# Altium footprint library FMC-USB-PHY-BOARD_r0.2.PcbLib: 19 footprints (part 1 of 2)
Each footprint in its own frame and in the unit in brackets; x right, y up, seen from the top. Pads: shape width x height; smd on the part's side, far side on the other; paste and mask are expansions set on the pad; w line width, h text height; cw(c..) or ccw(c..) is an arc to the next point about the centre after c.
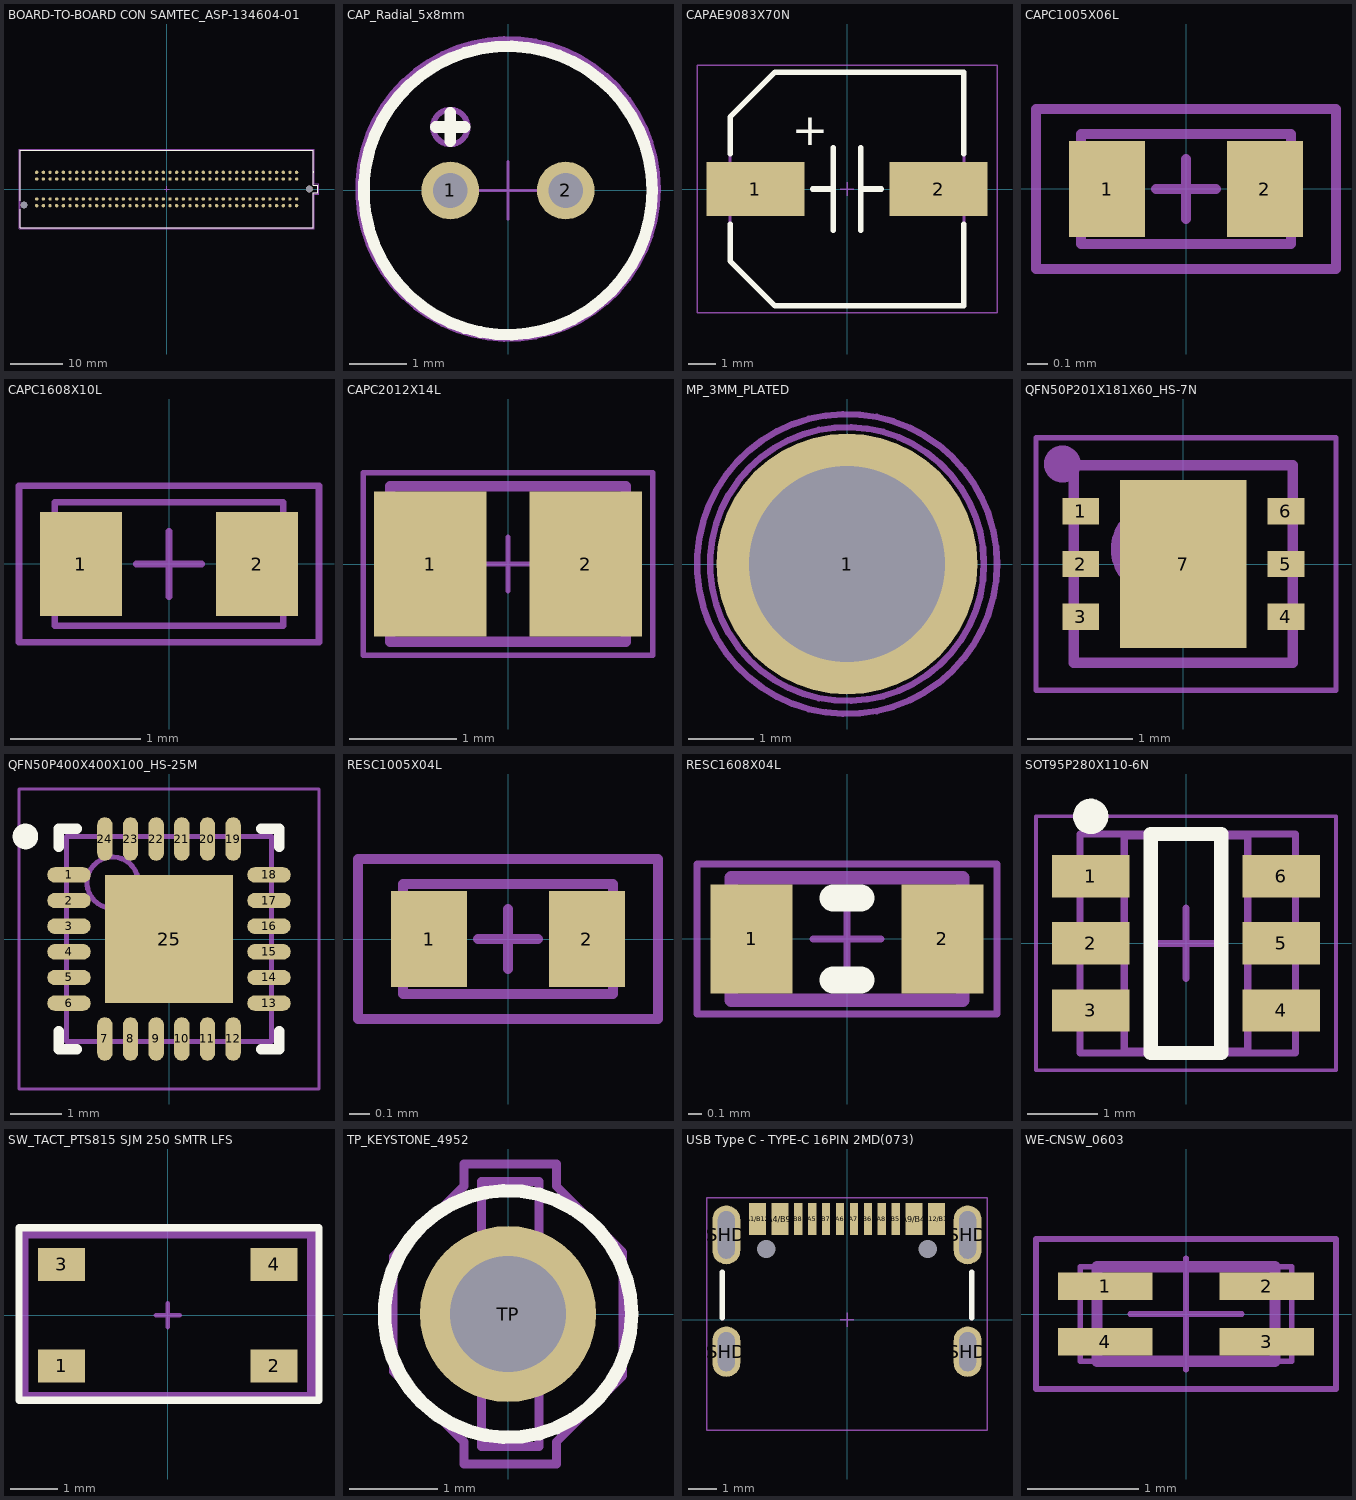
[diagram p0: the footprints below, top view; thin cyan lines are the x and y axes]

## BOARD-TO-BOARD CON SAMTEC_ASP-134604-01 [mm]
pads (162):
  round 0.64 smd: C1(24.765,3.175) C2(23.495,3.175) C3(22.225,3.175) C4(20.955,3.175) C5(19.685,3.175) C6(18.415,3.175) C7(17.145,3.175) C8(15.875,3.175) C9(14.605,3.175) C10(13.335,3.175) C11(12.065,3.175) C12(10.795,3.175) C13(9.525,3.175) C14(8.255,3.175) C15(6.985,3.175) C16(5.715,3.175) C17(4.445,3.175) C18(3.175,3.175) C19(1.905,3.175) C20(0.635,3.175) C21(-0.635,3.175) C22(-1.905,3.175) C23(-3.175,3.175) C24(-4.445,3.175) C25(-5.715,3.175) C26(-6.985,3.175) C27(-8.255,3.175) C28(-9.525,3.175) C29(-10.795,3.175) C30(-12.065,3.175) C31(-13.335,3.175) C32(-14.605,3.175) C33(-15.875,3.175) C34(-17.145,3.175) C35(-18.415,3.175) C36(-19.685,3.175) C37(-20.955,3.175) C38(-22.225,3.175) C39(-23.495,3.175) C40(-24.765,3.175) D1(24.765,1.905) D2(23.495,1.905) D3(22.225,1.905) D4(20.955,1.905) D5(19.685,1.905) D6(18.415,1.905) D7(17.145,1.905) D8(15.875,1.905) D9(14.605,1.905) D10(13.335,1.905) D11(12.065,1.905) D12(10.795,1.905) D13(9.525,1.905) D14(8.255,1.905) D15(6.985,1.905) D16(5.715,1.905) D17(4.445,1.905) D18(3.175,1.905) D19(1.905,1.905) D20(0.635,1.905) D21(-0.635,1.905) D22(-1.905,1.905) D23(-3.175,1.905) D24(-4.445,1.905) D25(-5.715,1.905) D26(-6.985,1.905) D27(-8.255,1.905) D28(-9.525,1.905) D29(-10.795,1.905) D30(-12.065,1.905) D31(-13.335,1.905) D32(-14.605,1.905) D33(-15.875,1.905) D34(-17.145,1.905) D35(-18.415,1.905) D36(-19.685,1.905) D37(-20.955,1.905) D38(-22.225,1.905) D39(-23.495,1.905) D40(-24.765,1.905) G1(24.765,-1.905) G2(23.495,-1.905) G3(22.225,-1.905) G4(20.955,-1.905) G5(19.685,-1.905) G6(18.415,-1.905) G7(17.145,-1.905) G8(15.875,-1.905) G9(14.605,-1.905) G10(13.335,-1.905) G11(12.065,-1.905) G12(10.795,-1.905) G13(9.525,-1.905) G14(8.255,-1.905) G15(6.985,-1.905) G16(5.715,-1.905) G17(4.445,-1.905) G18(3.175,-1.905) G19(1.905,-1.905) G20(0.635,-1.905) G21(-0.635,-1.905) G22(-1.905,-1.905) G23(-3.175,-1.905) G24(-4.445,-1.905) G25(-5.715,-1.905) G26(-6.985,-1.905) G27(-8.255,-1.905) G28(-9.525,-1.905) G29(-10.795,-1.905) G30(-12.065,-1.905) G31(-13.335,-1.905) G32(-14.605,-1.905) G33(-15.875,-1.905) G34(-17.145,-1.905) G35(-18.415,-1.905) G36(-19.685,-1.905) G37(-20.955,-1.905) G38(-22.225,-1.905) G39(-23.495,-1.905) G40(-24.765,-1.905) H1(24.765,-3.175) H2(23.495,-3.175) H3(22.225,-3.175) H4(20.955,-3.175) H5(19.685,-3.175) H6(18.415,-3.175) H7(17.145,-3.175) H8(15.875,-3.175) H9(14.605,-3.175) H10(13.335,-3.175) H11(12.065,-3.175) H12(10.795,-3.175) H13(9.525,-3.175) H14(8.255,-3.175) H15(6.985,-3.175) H16(5.715,-3.175) H17(4.445,-3.175) H18(3.175,-3.175) H19(1.905,-3.175) H20(0.635,-3.175) H21(-0.635,-3.175) H22(-1.905,-3.175) H23(-3.175,-3.175) H24(-4.445,-3.175) H25(-5.715,-3.175) H26(-6.985,-3.175) H27(-8.255,-3.175) H28(-9.525,-3.175) H29(-10.795,-3.175) H30(-12.065,-3.175) H31(-13.335,-3.175) H32(-14.605,-3.175) H33(-15.875,-3.175) H34(-17.145,-3.175) H35(-18.415,-3.175) H36(-19.685,-3.175) H37(-20.955,-3.175) H38(-22.225,-3.175) H39(-23.495,-3.175) H40(-24.765,-3.175)
  round 1.27 hole 1.27 unplated: ""(-27.191,-3.05) ""(27.19,0)
Top Overlay:
  circle w0.2: c27.9,3.2 r0.1
  lines w0.127: -27.89,-7.35 -27.89,-3.85 ; -27.89,-7.34 27.89,-7.34 27.89,-0.76 28.78,-0.76 28.78,0.76 27.89,0.76 27.89,7.34 -27.89,7.34 ; -27.89,-2.25 -27.89,7.35
Top 3D Body:
  lines w0.127: -27.89,-7.34 -27.89,7.34 27.89,7.34 27.89,0.76 28.78,0.76 28.78,-0.76 27.89,-0.76 27.89,-7.34 -27.89,-7.34
Top Courtyard:
  lines w0.1: -0.5,0 0.5,0 ; -0.004,-0.504 -0.004,0.496 ; -28.14,-7.59 28.14,-7.59 28.14,-1.01 29.03,-1.01 29.03,1.01 28.14,1.01 28.14,7.59 -28.14,7.59 -28.14,-7.59
Top Assembly:
  circle w0.2: c27.9,3.2 r0.1
  lines w0.127: -27.89,-7.34 27.89,-7.34 27.89,-0.76 28.78,-0.76 28.78,0.76 27.89,0.76 27.89,7.34 -27.89,7.34 -27.89,-7.34
  text ".Designator" at 4.998,0.333 h1
3D body "ASP-134604-01.stp": height 7.11, standoff -1.27, extent -27.889,-7.341 28.778,7.341

## CAP_Radial_5x8mm [mm] "Radial_5x8mm"
pads (2):
  round 1 hole 0.6: 1(-1,0) 2(1,0)
Top Overlay:
  circle w0.2: c0,0 r2.5
  lines w0.2: -1.25,1.1 -0.75,1.1 ; -1,0.85 -1,1.35
Top Courtyard:
  circle w0.1: c0,0.025 r2.6
  lines w0.05: -0.5,0 0.5,0 ; 0,-0.5 0,0.5
Top Assembly:
  circle w0.1: c0,0 r2.5
  circle w0.1: c-1,1.1 r0.3
  text ".Designator" at -0.333,4.998 h1
3D body "PolyElko_5x8mm_A750BK107M1AAAE024.stp": height 9.01, standoff -3, extent -2.745,-2.75 2.745,2.75

## CAPAE9083X70N [mm] "Aluminum Electrolytic Capacitor, Body 8,30x8,30x7,00mm, IPC Medium Density"
height 7
pads (2):
  rect 3.55x1.95 smd: 1(-3.325,0) 2(3.325,0)
Top Overlay:
  lines w0.2: -4.25,-1.275 -4.25,-2.613 -2.612,-4.25 4.25,-4.25 4.25,-1.275 ; -4.25,1.275 -4.25,2.612 -2.612,4.25 4.25,4.25 4.25,1.275 ; -1.25,0 -0.5,0 ; -0.5,-1.5 -0.5,0 ; -0.5,1.5 -0.5,0 ; 0.5,-1.5 0.5,0 ; 0.5,1.5 0.5,0 ; 1.25,0 0.5,0
  text "+" at -2,1.2 h2
Top 3D Body:
  lines w0.1: -4.25,-2.613 -4.25,2.612 -2.612,4.25 4.25,4.25 4.25,-4.25 -2.612,-4.25 -4.25,-2.613
Top Courtyard:
  lines w0.05: -0.25,0 0.25,0 ; 0,-0.25 0,0.25 ; -5.45,-4.5 5.45,-4.5 5.45,4.5 -5.45,4.5 -5.45,-4.5
Top Assembly:
  lines w0.05: -5.45,-4.5 5.45,-4.5 5.45,4.5 -5.45,4.5 -5.45,-4.5
  text ".Designator" at -0.4,2.3 h1
3D body "A768KE226M1JLAE054.stp": height 7, standoff 0, extent -4.8,-4.25 4.8,4.25

## CAPC1005X06L [mm] "Chip Capacitor, 2-Leads, Body 1,00x0,50mm, IPC High Density"
height 0.55
pads (2):
  rect 0.38x0.48 smd: 1(-0.395,0) 2(0.395,0)
Top 3D Body:
  lines w0.05: -0.525,-0.275 -0.525,0.275 0.525,0.275 0.525,-0.275 -0.525,-0.275
Top Courtyard:
  lines w0.05: -0.15,0 0.15,0 ; 0,-0.15 0,0.15 ; -0.75,-0.4 -0.75,0.4 0.75,0.4 0.75,-0.4 -0.75,-0.4
Top Assembly:
  lines w0.05: -0.75,-0.4 -0.75,0.4 0.75,0.4 0.75,-0.4 -0.75,-0.4
  text ".Designator" at -1.148,-0.208 h0.5
3D body "CAP_0402_m1005.stp": height 0.5, standoff 0, extent -0.5,-0.25 0.5,0.25

## CAPC1608X10L [mm] "Chip Capacitor, 2-Leads, Body 1,60x0,80mm, IPC High Density"
height 0.95
pads (2):
  rect 0.63x0.8 smd: 1(-0.675,0) 2(0.675,0)
Top 3D Body:
  lines w0.05: -0.875,-0.475 -0.875,0.475 0.875,0.475 0.875,-0.475 -0.875,-0.475
Top Courtyard:
  lines w0.05: -0.25,0 0.25,0 ; 0,-0.25 0,0.25 ; -1.15,-0.6 -1.15,0.6 1.15,0.6 1.15,-0.6 -1.15,-0.6
Top Assembly:
  lines w0.05: -1.15,-0.6 -1.15,0.6 1.15,0.6 1.15,-0.6 -1.15,-0.6
  text ".Designator" at 2.293,0.415 h1
3D body "CAP_0603_m1608.stp": height 0.8, standoff 0, extent -0.8,-0.45 0.8,0.45

## CAPC2012X14L [mm] "Chip Capacitor, 2-Leads, Body 2,00x1,25mm, IPC High Density"
height 1.45
pads (2):
  rect 1.05x1.35 smd: 1(-0.725,0) 2(0.725,0)
Top 3D Body:
  lines w0.1: -1.1,-0.725 1.1,-0.725 1.1,0.725 -1.1,0.725 -1.1,-0.725
Top Courtyard:
  lines w0.05: -0.25,0 0.25,0 ; 0,-0.25 0,0.25 ; -1.35,-0.85 1.35,-0.85 1.35,0.85 -1.35,0.85 -1.35,-0.85
Top Assembly:
  lines w0.05: -1.35,-0.85 -1.35,0.85 1.35,0.85 1.35,-0.85 -1.35,-0.85
  text ".Designator" at -2.293,-0.415 h1
3D body: height 1.25, standoff 0, extent 0.65,-0.725 1.1,0.725
3D body: height 1.25, standoff 0, extent -1.1,-0.725 -0.65,0.725
3D body: height 1.25, standoff 0, extent -0.65,-0.725 0.65,0.725

## MP_3MM_PLATED [mm] "Mounting hole with 3mm hole diameter"
pads (1):
  round 4 hole 3: 1(0,0)
Top Courtyard:
  circle w0.1: c0,0 r2.3
  lines w0.1: -0.5,0 0.5,0 ; 0,-0.5 0,0.5
Top Assembly:
  circle w0.1: c0,0 r2.1
  text ".Designator" at -2.499,-0.167 h0.5

## QFN50P201X181X60_HS-7N [mm] "QFN, 6-Leads, Body 2,01x1,81mm, Pitch 0,50mm, Thermal Pad 1,00x1,40mm, IPC Medium Density"
height 0.61
pads (7):
  rect 0.35x0.25 smd: 1(-0.975,0.5) 2(-0.975,0) 3(-0.975,-0.5) 4(0.975,-0.5) 5(0.975,0) 6(0.975,0.5)
  rect 1.2x1.6 smd paste-1: 7(0,0)
Top Paste:
  rectangle: -0.55,0.15 0.55,0.7
  rectangle: -0.55,-0.7 0.55,-0.15
Top 3D Body:
  circle w0.1: c-0.24,0.14 r0.4
  lines w0.1: -1.04,-0.94 -1.04,0.94 1.04,0.94 1.04,-0.94 -1.04,-0.94
Top Courtyard:
  lines w0.05: -0.25,0 0.25,0 ; 0,-0.25 0,0.25 ; -1.4,-1.2 -1.4,1.2 1.45,1.2 1.45,-1.2 -1.4,-1.2
Top Assembly:
  circle w0.25: c-1.15,0.95 r0.05
  lines w0.05: -1.4,-1.2 1.45,-1.2 1.45,1.2 -1.4,1.2 -1.4,-1.2
  text ".Designator" at 0.475,0.3 h1
3D body "U-DFN2018-6 vergleichbar mit AP21510FM-7.stp": height 0.58, standoff 0, extent -1.01,-0.9 1.01,0.9

## QFN50P400X400X100_HS-25M [mm] "QFN, 24-Leads, Body 4,00x4,00mm, Pitch 0,50mm, Thermal Pad 0,30x0,85mm, IPC Low Density"
height 1
pads (25):
  oval 0.85x0.3 smd: 1(-1.95,1.25) 2(-1.95,0.75) 3(-1.95,0.25) 4(-1.95,-0.25) 5(-1.95,-0.75) 6(-1.95,-1.25) 13(1.95,-1.25) 14(1.95,-0.75) 15(1.95,-0.25) 16(1.95,0.25) 17(1.95,0.75) 18(1.95,1.25)
  oval 0.3x0.85 smd: 7(-1.25,-1.95) 8(-0.75,-1.95) 9(-0.25,-1.95) 10(0.25,-1.95) 11(0.75,-1.95) 12(1.25,-1.95) 19(1.25,1.95) 20(0.75,1.95) 21(0.25,1.95) 22(-0.25,1.95) 23(-0.75,1.95) 24(-1.25,1.95)
  rect 2.5x2.5 smd paste+0: 25(0,0)
Top Overlay:
  circle w0.25: c-2.8,2 r0.125
  lines w0.2: -2.15,-1.8 -2.15,-2.15 -1.8,-2.15 ; -2.15,1.8 -2.15,2.15 -1.8,2.15 ; 1.8,-2.15 2.15,-2.15 2.15,-1.8 ; 1.8,2.15 2.15,2.15 2.15,1.8
Top Paste:
  rectangle: -1.25,-1.25 -0.05,-0.05
  region: 1.25,-1.25 1.25,-0.05 0.05,-0.05 0.05,-1.25
  region: 1.25,0.05 1.25,1.25 0.05,1.25 0.05,0.05
  rectangle: -1.25,0.05 -0.05,1.25
Top Courtyard:
  lines w0.05: -2.925,-2.925 -2.925,2.925 2.925,2.925 2.925,-2.925 -2.925,-2.925
  lines w0.1: -0.5,0 0.5,0 ; 0,-0.5 0,0.5
Top Assembly:
  circle w0.1: c-1.1,1.1 r0.5
  lines w0.1: -2,-2 -2,2 2,2 2,-2 -2,-2
  text "U123" at -0.4,1.4 h0.8
3D body: height 1, standoff 0.02, extent -2,-2 2,2

## RESC1005X04L [mm] "Chip Resistor, 2-Leads, Body 1,00x0,53mm, IPC High Density"
height 0.4
pads (2):
  rect 0.38x0.48 smd: 1(-0.395,0) 2(0.395,0)
Top 3D Body:
  lines w0.05: -0.525,-0.275 0.525,-0.275 0.525,0.275 -0.525,0.275 -0.525,-0.275
Top Courtyard:
  lines w0.05: -0.15,0 0.15,0 ; 0,-0.15 0,0.15 ; -0.75,-0.4 0.75,-0.4 0.75,0.4 -0.75,0.4 -0.75,-0.4
Top Assembly:
  lines w0.05: -0.75,-0.4 0.75,-0.4 0.75,0.4 -0.75,0.4 -0.75,-0.4
  text ".Designator" at -3.143,-0.007 h0.5
3D body "RES 0402 (1005 metric).STEP": height 0.4, standoff 0, extent -0.525,-0.275 0.525,0.275

## RESC1608X04L [mm] "Chip Resistor, 2-Leads, Body 1,60x0,80mm, IPC High Density"
height 0.45
pads (2):
  rect 0.6x0.8 smd: 1(-0.7,0) 2(0.7,0)
Top Overlay:
  lines w0.2: -0.1,-0.3 0.1,-0.3 ; -0.1,0.3 0.1,0.3
Top 3D Body:
  lines w0.1: -0.85,-0.45 -0.85,0.45 0.85,0.45 0.85,-0.45 -0.85,-0.45
Top Courtyard:
  lines w0.05: -0.25,0 0.25,0 ; 0,-0.25 0,0.25 ; -1.1,-0.55 -1.1,0.55 1.1,0.55 1.1,-0.55 -1.1,-0.55
Top Assembly:
  lines w0.05: -1.1,-0.55 1.1,-0.55 1.1,0.55 -1.1,0.55 -1.1,-0.55
  text ".Designator" at 1.148,0.208 h0.5
3D body "RES_0603_m1608.stp": height 0.45, standoff 0, extent -0.8,-0.4 0.8,0.4

## SOT95P280X110-6N [mm] "SOT23, 6-Leads, Body 2,90x2,80mm, Pitch 0,95mm, IPC Medium Density"
height 1.1
pads (6):
  rect 1.1x0.6 smd: 1(-1.35,0.95) 2(-1.35,0) 3(-1.35,-0.95) 4(1.35,-0.95) 5(1.35,0) 6(1.35,0.95)
Top Overlay:
  circle w0.25: c-1.35,1.8 r0.125
  lines w0.2: -0.5,-1.55 0.5,-1.55 0.5,1.55 -0.5,1.55 -0.5,-1.55
Top 3D Body:
  lines w0.1: -0.875,-1.525 0.875,-1.525 0.875,1.525 -0.875,1.525 -0.875,-1.525
Top Courtyard:
  lines w0.05: -2.125,-1.8 2.125,-1.8 2.125,1.8 -2.125,1.8 -2.125,-1.8
  lines w0.1: -0.5,0 0.5,0 ; 0,-0.5 0,0.5
Top Assembly:
  circle w0.25: c-1.1,1 r0.125
  lines w0.1: -1.5,-1.55 -1.5,1.55 1.55,1.55 1.55,-1.55 -1.5,-1.55
  text ".Designator" at -3.749,-0.25 h0.75
3D body "SOT95P280X110-6N.step": height 1.1, standoff 0, extent -1.525,-1.525 1.525,1.525

## SW_TACT_PTS815 SJM 250 SMTR LFS [mm] "PTS815 SJM 250 SMTR LFS"
height 2.5
pads (4):
  rect 1x0.7 smd: 1(-2.25,-1.075) 2(2.25,-1.075) 3(-2.25,1.075) 4(2.25,1.075)
Top Overlay:
  lines w0.153: -3.15,-1.8 -3.15,1.85 3.2,1.85 3.2,-1.8 -3.15,-1.8
Top Courtyard:
  lines w0.1: -0.25,0 0.25,0 ; 0,-0.25 0,0.25
  lines w0.2: -3.05,-1.725 3.05,-1.725 3.05,1.725 -3.05,1.725 -3.05,-1.725
Top Assembly:
  lines w0.2: -3.051,-1.725 3.051,-1.725 3.051,1.725 -3.051,1.725 -3.051,-1.725
  text ".Designator" at 1.15,0.142 h1
3D body "PTS815SJM250SMTRLFS.stp": height 2.5, standoff 0, extent -2.25,-1.6 2.25,1.6

## TP_KEYSTONE_4952 [mm] "Loop Type THM Test Point P/N 4952"
height 0.1
pads (1):
  round 2 hole 1.32: TP(0,0)
Top Overlay:
  circle w0.153: c0,0 r1.4
Top Courtyard:
  lines w0.05: -0.25,0 0.25,0 ; 0,-0.25 0,0.25
  lines w0.1: -1.3,-0.65 -1.3,0.65 -0.65,1.3 -0.5,1.45 -0.5,1.7 0.55,1.7 0.55,1.45 1.3,0.7 1.3,-0.7 0.55,-1.45 0.55,-1.7 -0.5,-1.7 -0.5,-1.45 -1.148,-0.802 -1.3,-0.65
Top Assembly:
  lines w0.1: -0.3,-1.5 -0.3,1.5 0.35,1.5 0.35,-1.5 -0.3,-1.5
  text ".Designator" at 0.457,-2.292 h0.5
3D body "4952--3DModel-STEP-630548.STEP": height 6.3, standoff -4.99, extent -0.298,-1.499 0.337,1.499

## USB Type C - TYPE-C 16PIN 2MD(073) [mm] "USB Type-C 2.0 Horizontal Connector"
height 3.16
pads (18):
  rect 0.6x1.14 smd: A1/B12(-3.2,3.605) A4/B9(-2.4,3.605) A9/B4(2.4,3.605) A12/B1(3.2,3.605)
  rect 0.3x1.14 smd: A5(-1.25,3.605) A6(-0.25,3.605) A7(0.25,3.605) A8(1.25,3.605) B5(1.75,3.605) B6(0.75,3.605) B7(-0.75,3.605) B8(-1.75,3.605)
  round 0.4 hole 0.65 unplated: MH1(-2.89,2.535) MH2(2.89,2.535)
  oval 1x1.8 hole 0.6 slot 1.4 at 90 deg: SHD(-4.32,-1.145) SHD(4.32,-1.145)
  oval 1x2.1 hole 0.6 slot 1.7 at 90 deg: SHD(-4.32,3.035) SHD(4.32,3.035)
Top Overlay:
  lines w0.2: -4.47,0.065 -4.47,1.695 ; 4.47,0.065 4.47,1.695
Top Paste:
  region: 4.32,1.985 4.419,1.985 4.603,2.061 4.744,2.202 4.82,2.386 4.82,2.485 4.82,3.585 4.82,3.684 4.744,3.868 4.603,4.009 4.419,4.085 4.32,4.085 4.221,4.085 4.037,4.009 3.896,3.868 3.82,3.684 3.82,3.585 3.82,2.485 3.82,2.386 3.896,2.202 4.037,2.061 4.221,1.985
  region: -4.32,1.985 -4.221,1.985 -4.037,2.061 -3.896,2.202 -3.82,2.386 -3.82,2.485 -3.82,3.585 -3.82,3.684 -3.896,3.868 -4.037,4.009 -4.221,4.085 -4.32,4.085 -4.419,4.085 -4.603,4.009 -4.744,3.868 -4.82,3.684 -4.82,3.585 -4.82,2.485 -4.82,2.386 -4.744,2.202 -4.603,2.061 -4.419,1.985
  region: 4.32,-2.045 4.419,-2.045 4.603,-1.969 4.744,-1.828 4.82,-1.644 4.82,-1.545 4.82,-0.745 4.82,-0.646 4.744,-0.462 4.603,-0.321 4.419,-0.245 4.32,-0.245 4.221,-0.245 4.037,-0.321 3.896,-0.462 3.82,-0.646 3.82,-0.745 3.82,-1.545 3.82,-1.644 3.896,-1.828 4.037,-1.969 4.221,-2.045
  region: -4.32,-2.045 -4.221,-2.045 -4.037,-1.969 -3.896,-1.828 -3.82,-1.644 -3.82,-1.545 -3.82,-0.745 -3.82,-0.646 -3.896,-0.462 -4.037,-0.321 -4.221,-0.245 -4.32,-0.245 -4.419,-0.245 -4.603,-0.321 -4.744,-0.462 -4.82,-0.646 -4.82,-0.745 -4.82,-1.545 -4.82,-1.644 -4.744,-1.828 -4.603,-1.969 -4.419,-2.045
Top Courtyard:
  lines w0.05: -0.25,0 0.25,0 ; 0,-0.25 0,0.25 ; -5.02,-3.965 5.02,-3.965 5.02,4.375 -5.02,4.375 -5.02,-3.965
Top Assembly:
  lines w0.05: -5.02,-3.965 5.02,-3.965 5.02,4.375 -5.02,4.375 -5.02,-3.965
  text ".Designator" at -2.253,-0.414 h1
3D body "629722000214.stp": height 3.33, standoff -0.83, extent -4.79,-3.765 4.79,3.945

## WE-CNSW_0603 [mm] "SMT Common Mode Line Filter, 4-leads, body 1.60x0.85mm"
height 1.1
pads (4):
  rect 0.85x0.25 smd: 1(-0.725,0.25) 2(0.725,0.25) 3(0.725,-0.25) 4(-0.725,-0.25)
Top Courtyard:
  lines w0.05: -0.5,0 0.5,0 ; 0,-0.5 0,0.5 ; -1.35,-0.675 1.35,-0.675 1.35,0.675 -1.35,0.675 -1.35,-0.675
Top Assembly:
  lines w0.05: -0.95,-0.425 0.95,-0.425 0.95,0.425 -0.95,0.425 -0.95,-0.425
  lines w0.1: -0.8,-0.425 0.8,-0.425 0.8,0.425 -0.8,0.425 -0.8,-0.425
  text ".Designator" at -2.499,-0.167 h0.5
3D body "0603_744230xxx.stp": height 1.1, standoff 0, extent -0.8,-0.425 0.8,0.425